# Altium schematic symbol library ESD Protection.SchLib: 1 symbol
Pins are listed as number, name and electrical type; pins without a type are passive.

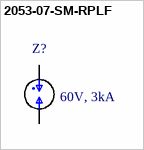
[diagram p0: symbol 2053-07-SM-RPLF]

## 2053-07-SM-RPLF
designator Z?  Part Specification: 60V, 3kA  (hidden comment: 2053-07-SM-RPLF)
GAS Discharge Tube 75V; Manufacturer: BOURNS; Ordercode: 2053-07-SM-RPLF
footprint Tube_4.2x4mm (GAS_Discharge_Tube_4.2x4mm)
pins: 1, 2